# Altium footprint library TI-VFQN-16-3x3.PcbLib: 1 footprints
Each footprint in its own frame and in the unit in brackets; x right, y up, seen from the top. Pads: shape width x height; smd on the part's side, far side on the other; paste and mask are expansions set on the pad; w line width, h text height; cw(c..) or ccw(c..) is an arc to the next point about the centre after c.
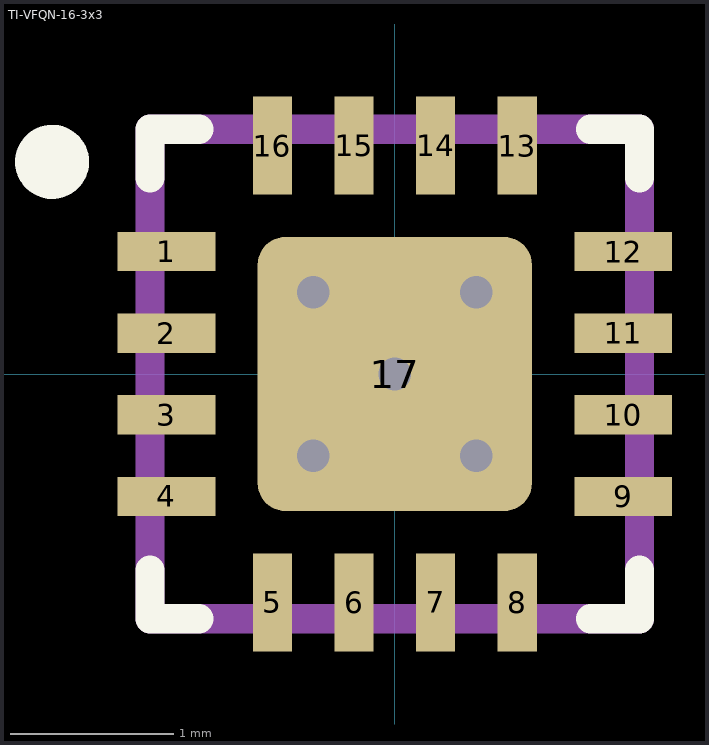
[diagram p0: the footprint, top view; thin cyan lines are the x and y axes]

## TI-VFQN-16-3x3 [mm]
height 1
pads (17):
  rect 0.6x0.24 smd mask+0.051: 1(-1.4,0.75) 2(-1.4,0.25) 3(-1.4,-0.25) 4(-1.4,-0.75) 9(1.4,-0.75) 10(1.4,-0.25) 11(1.4,0.25) 12(1.4,0.75)
  rect 0.24x0.6 smd mask+0.051: 5(-0.75,-1.4) 6(-0.25,-1.4) 7(0.25,-1.4) 8(0.75,-1.4) 13(0.75,1.4) 14(0.25,1.4) 15(-0.25,1.4) 16(-0.75,1.4)
  rrect20% 1.68x1.68 smd mask+0.051: 17(0,0)
via 0,0 diameter 0.4 hole 0.2
via -0.5,0.5 diameter 0.4 hole 0.2
via 0.5,-0.5 diameter 0.4 hole 0.2
via -0.5,-0.5 diameter 0.4 hole 0.2
via 0.5,0.5 diameter 0.4 hole 0.2
Top Overlay:
  circle w0.254: c-2.1,1.3 r0.1
  lines w0.178: -1.5,-1.2 -1.5,-1.5 -1.2,-1.5 ; -1.5,1.2 -1.5,1.5 -1.2,1.5 ; 1.2,-1.5 1.5,-1.5 1.5,-1.2 ; 1.2,1.5 1.5,1.5 1.5,1.2
Mechanical 13:
  lines w0.178: -1.5,-1.5 -1.5,1.5 1.5,1.5 1.5,-1.5 -1.5,-1.5
Mechanical 15:
  lines w0.178: -0.2,0 0,0 ; 0,-0.2 0,0 ; 0,0.2 0,0 ; 0.2,0 0,0
3D body "TPS62133AQRGTTQ1.STEP": height 1, standoff 0, extent -1.5,-1.5 1.5,1.5